# Altium schematic symbol library GRM1555C1H221JA01D.SchLib: 1 symbol
Pins are listed as number, name and electrical type; pins without a type are passive.

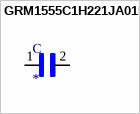
[diagram p0: symbol GRM1555C1H221JA01D]

## GRM1555C1H221JA01D
designator C
SMD Capacitor C0G_EIA_ with Capacitance: 220pF Tol. 5%. Rated Voltage: 50Vdc; MP: GRM1555C1H221JA01D; MF: Murata; SnapEDA_Link: https://www.snapeda.com/parts/GRM1555C1H221JA01D/Murata%20Electronics%20North%20America/view-part/324966/?ref=snap; Availability: Unavailable; Price: None; Value: *; Package: 1005 Taiyo Yuden
footprint CAPC1005X55N
pins: 1, 2